# Altium schematic symbol library Resistors.SchLib: 2 symbols
Pins are listed as number, name and electrical type; pins without a type are passive.

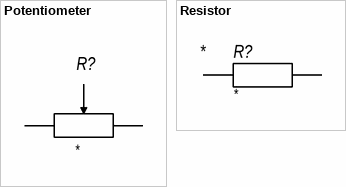
[diagram p0: symbols Potentiometer to Resistor]

## Potentiometer
designator R?
Designer: Alexei Kazachkov; Published: 31.10.2021; Resistance: *
pins: 1, 2, 3

## Resistor
designator R?
Designer: Alexei Kazachkov; Published: 31.10.2021; Resistance: *
pins: 1, 2